# Altium schematic symbol library SCH - POWER - LINEAR VREG - TI TLV70029DSE.SchLib: 1 symbol
Pins are listed as number, name and electrical type; pins without a type are passive.

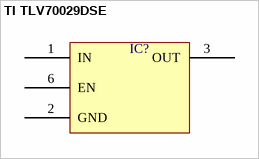
[diagram p0: symbol TI TLV70029DSE]

## TI TLV70029DSE
designator IC?  (value not drawn)
pins: 1 IN, 2 GND, 3 OUT, 6 EN